# Altium schematic symbol library CAPACITOR.SchLib: 3 symbols
Pins are listed as number, name and electrical type; pins without a type are passive.

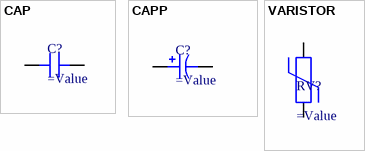
[diagram p0: symbols CAP to VARISTOR]

## CAP
designator C?
=Description
pins: 1, 2

## CAPP
designator C?
=Description
pins: 1 +, 2 -

## VARISTOR
designator RV?
=Description
pins: 1, 2